# Altium schematic symbol library Pieces.SchLib: 16 symbols
Pins are listed as number, name and electrical type; pins without a type are passive.

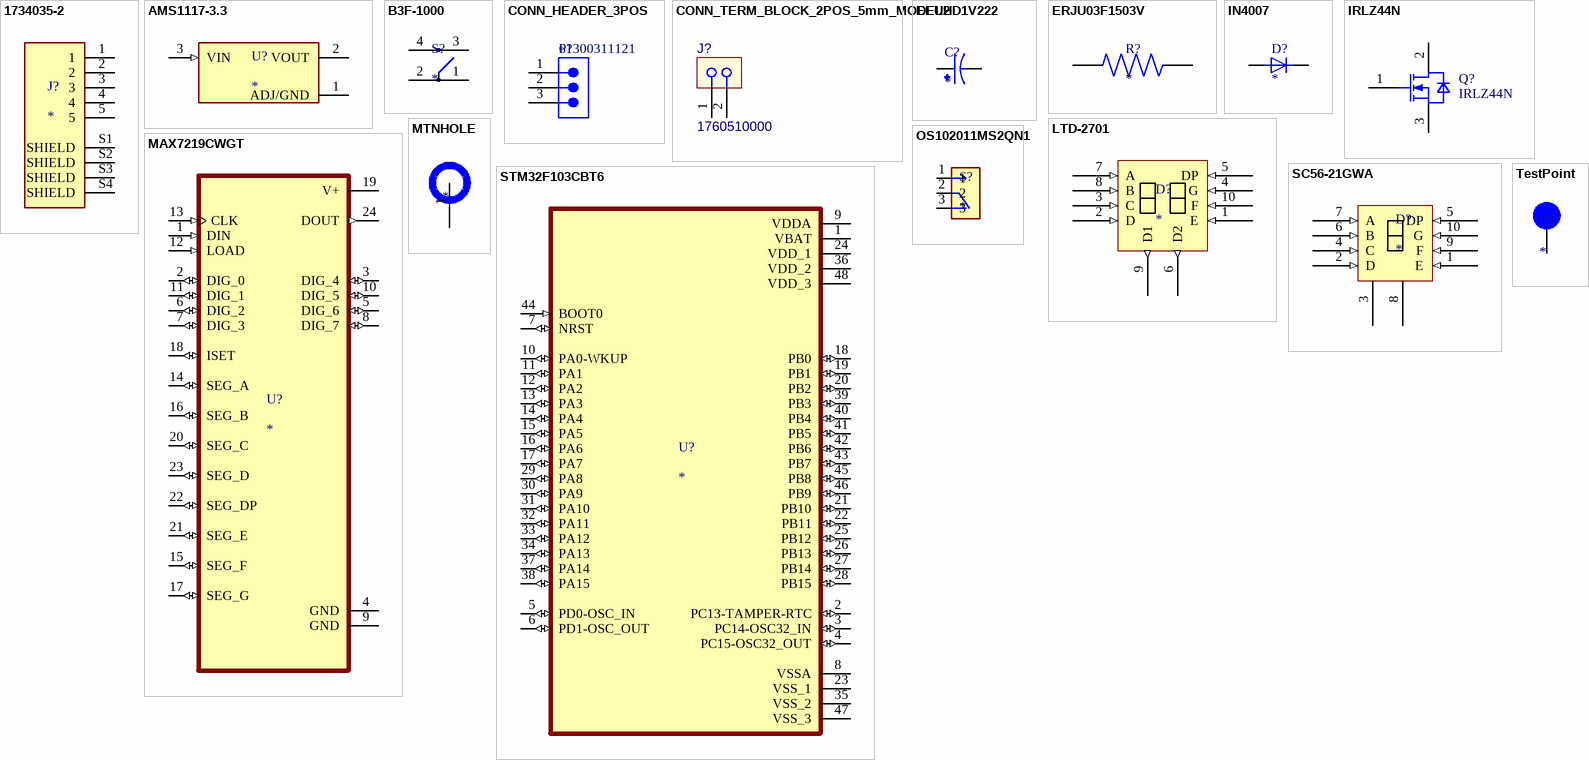
[diagram p0: symbols 1734035-2 to TestPoint]

## 1734035-2
designator J?
CONNECTOR, RECEPTACLE, MINI-USB, 1 PORT, SERIES B, RIGHT ANGLE | TE Connectivity 1734035-2; Number_of_Positions: 5; Centerline_Pitch: .8 mm[.031 in]; SnapEDA_Link: https://www.snapeda.com/parts/1734035-2/TE+Connectivity+AMP+Connectors/view-part/?ref=snap; Product_Type: Connector; Package: None; Value: *; MF: TE Connectivity; MP: 1734035-2; EU_RoHS_Compliance: Compliant; Check_prices: https://www.snapeda.com/parts/1734035-2/TE+Connectivity+AMP+Connectors/view-part/?ref=eda; Supplier 1: Avnet; Supplier Part Number 1: 1734035-2
footprint CONN_1734035-2
pins: 1, 2, 3, 4, 5, S1 SHIELD, S2 SHIELD, S3 SHIELD, S4 SHIELD

## AMS1117-3.3
designator U?
Linear Voltage Regulator IC Positive Fixed 1 Output 1A SOT-223-3L; MF: UMW; MP: AMS1117-3.3; SnapEDA_Link: https://www.snapeda.com/parts/AMS1117-3.3/UMW/view-part/?ref=snap; Package: SOT-223-3L UMW; Value: *; Check_prices: https://www.snapeda.com/parts/AMS1117-3.3/UMW/view-part/?ref=eda; Supplier 1: DigiKey; Supplier Part Number 1: 5272-AMS1117-3.3SCT-ND
footprint SOT229P700X180-4N
pins: 1 ADJ/GND (power), 2 VOUT, 3 VIN (in)

## B3F-1000
designator S?
Switch Tactile N.O. SPST Flat Round Button PC Pins 0.05A 24VDC 1000000Cycles 0.98N Thru-Hole Bag; MF: Omron; MP: B3F1000; SnapEDA_Link: https://www.snapeda.com/parts/B3F1000/Omron/view-part/?ref=snap; Package: None; Value: *; Check_prices: https://www.snapeda.com/parts/B3F1000/Omron/view-part/?ref=eda; Supplier 1: Avnet; Supplier Part Number 1: B3F1000
footprint SW_B3F-1000
pins: 1, 2, 3, 4

## CONN_HEADER_3POS
designator P?, comment 61300311121
Header 3pins single row, TH; Manufacturer 1: Würth Elektronik; Manufacturer Part Number 1: 61300311121; Mounting Technology: TH; Supplier 1: Digi-Key; Supplier Part Number 1: 732-5316-ND
footprint CONN_HDR_3POS_100MILS_TH (Pin Header, pitch 2.54 mm, THT, Vertical, single row, 3p)
pins: 1, 2, 3

## CONN_TERM_BLOCK_2POS_5mm_MODEL2
designator J?, comment 1760510000
CONN TERM BLOCK 2POS 5mm pitch; Manufacturer 1: Phoenix Contact; Manufacturer Part Number 1: 1890963; CEGEP: CONWECO0003; Manufacturer2: Weidmüller; Manufacturer2_PN: 1760510000; Supplier 1: Digi-Key; Supplier Part Number 1: 281-1882-ND; Mounting Technology: TH
footprint CONN_TERM_BLOCK_2POS_5mm_Model1 (Terminal Block 2 positions Throught hole)
pins: 1 "USB Vcc [Red]", 2 "USB Data - [White]"

## EEUHD1V222
designator C?
CAP ALUM 2200UF 20% 35V RADIAL; MF: Panasonic; MP: EEU-HD1V222; Price: None; Value: *; Check_prices: https://www.snapeda.com/parts/EEU-HD1V222/Panasonic/view-part/2299095/?ref=eda; Package: RADIAL-2 Panasonic; SnapEDA_Link: https://www.snapeda.com/parts/EEU-HD1V222/Panasonic/view-part/2299095/?ref=snap; Purchase-URL: https://pricing.snapeda.com/search/part/EEU-HD1V222/?ref=eda; Availability: In Stock; Supplier 1: Newark; Supplier Part Number 1: EEUHD1V222
footprint CAPPRD500W60D1250H2500
pins: N, P

## ERJU03F1503V
designator R?
0201 anti-sulfurated resistor 0603 Anti-Sulfurated; MF: Panasonic; MP: ERJ-U03F1503V; SnapEDA_Link: https://www.snapeda.com/parts/ERJ-U03F1503V/Panasonic/view-part/?ref=snap; Package: 1608-2 Panasonic; Value: *; Check_prices: https://www.snapeda.com/parts/ERJ-U03F1503V/Panasonic/view-part/?ref=eda; Supplier 1: Avnet; Supplier Part Number 1: RC0603FR-1020KL
footprint RES_ERJU03F1503V
pins: 1, 2

## IN4007
designator D?
Diode Standard 1000 V 1A Through Hole DO-204AL (DO-41); MF: Vishay Semiconductor; MP: IN4007; SnapEDA_Link: https://www.snapeda.com/parts/IN4007/Vishay/view-part/?ref=snap; Package: DO-41 Vishay Semiconductor; Value: *; Check_prices: https://www.snapeda.com/parts/IN4007/Vishay/view-part/?ref=eda
footprint DIOAD1070W78L470D235P
pins: A, C

## IRLZ44N
designator Q?
OptiMOS 3 Power-Transistor, VDS 100V; Manufacturer: Infineon Technologies; Manufacturer Order Number: IRLZ44N; PackageReference: PG-TO220-3-904; Supplier 1: Avnet; Supplier Part Number 1: IRLZ44NPBF
footprint IFX-PG-TO220-3-904-1 (TO,flange mount,2.54 mm pitch, 3 pin, 10.16 mm L X 4.57 mm W X 20.56 mm H body)
pins: 1 GATE, 2 DRAIN, 3 SOURCE

## LTD-2701
designator D?
Afficheur 7-segments double; Supplier 1: Future Electronics; Supplier Part Number 1: LTD-2701G
footprint LTD-701JD
pins: 1 E (in), 2 D (in), 3 C (in), 4 G (in), 5 DP (in), 6 D2 (out), 7 A (in), 8 B (in), 9 D1 (out), 10 F (in)

## MAX7219CWGT
designator U?
IC DRVR 7 SEGMNT 8 DIGIT 24SOIC; MF: Analog Devices; MP: MAX7219CWG+; SnapEDA_Link: https://www.snapeda.com/parts/MAX7219CWG+/Analog+Devices/view-part/?ref=snap; Package: SOIC-24 Maxim; Value: *; Check_prices: https://www.snapeda.com/parts/MAX7219CWG+/Analog+Devices/view-part/?ref=eda; Supplier 1: DigiKey; Supplier Part Number 1: MAX7219CWG+TCT-ND
footprint SOIC127P1032X265-24N
pins: 1 DIN (in), 2 DIG_0 (io), 3 DIG_4 (io), 4 GND (power), 5 DIG_6 (io), 6 DIG_2 (io), 7 DIG_3 (io), 8 DIG_7 (io), 9 GND (power), 10 DIG_5 (io), 11 DIG_1 (io), 12 LOAD (in), 13 CLK (in), 14 SEG_A (io), 15 SEG_F (io), 16 SEG_B (io), 17 SEG_G (io), 18 ISET (io), 19 V+ (power), 20 SEG_C (io), 21 SEG_E (io), 22 SEG_DP (io), 23 SEG_D (io), 24 DOUT (out)

## MTNHOLE
designator *
footprint MTHOLE1_LAB4
pins: 1

## OS102011MS2QN1
designator S?
SLIDE SWITCH SPDT T/H ON-ON BBM; MP: OS102011MS2QN1; MF: C&K; SnapEDA_Link: https://www.snapeda.com/parts/OS102011MS2QN1/C%2526K/view-part/?ref=snap; Purchase-URL: https://pricing.snapeda.com/search/part/OS102011MS2QN1/?ref=eda; Value: *; Digi-Key_Part_Number: CKN9565-ND; Check_prices: https://www.snapeda.com/parts/OS102011MS2QN1/C%2526K/view-part/?ref=eda; Package: None; Supplier 1: Arrow Electronics; Supplier Part Number 1: OS102011MS2QN1C
footprint SW_OS102011MS2QN1
pins: 1, 2, 3

## SC56-21GWA
designator D?
Afficheur 7-Segment; Supplier 1: DigiKey; Supplier Part Number 1: 754-1704-5-ND
footprint 7-SegmentDIP
footprint SC56-21GWA
pins: 1 E (in), 2 D (in), 3 (power), 4 C (in), 5 DP (in), 6 B (in), 7 A (in), 8 (power), 9 F (in), 10 G (in)

## STM32F103CBT6
designator U?
ARMÂ® CortexÂ®-M3 STM32F1 Microcontroller IC 32-Bit Single-Core 72MHz 128KB (128K x 8) FLASH; MF: STMicroelectronics; MP: STM32F103CBT6; SnapEDA_Link: https://www.snapeda.com/parts/STM32F103CBT6/STMicroelectronics/view-part/?ref=snap; Package: LQFP-48 STMicroelectronics; Value: *; Check_prices: https://www.snapeda.com/parts/STM32F103CBT6/STMicroelectronics/view-part/?ref=eda; Supplier 1: Arrow Electronics; Supplier Part Number 1: STM32F103CBT6
footprint QFP50P900X900X160-48N
pins: 1 VBAT (power), 2 PC13-TAMPER-RTC (io), 3 PC14-OSC32_IN (io), 4 PC15-OSC32_OUT (io), 5 PD0-OSC_IN (io), 6 PD1-OSC_OUT (io), 7 NRST (io), 8 VSSA (power), 9 VDDA (power), 10 PA0-WKUP (io), 11 PA1 (io), 12 PA2 (io), 13 PA3 (io), 14 PA4 (io), 15 PA5 (io), 16 PA6 (io), 17 PA7 (io), 18 PB0 (io), 19 PB1 (io), 20 PB2 (io), 21 PB10 (io), 22 PB11 (io), 23 VSS_1 (power), 24 VDD_1 (power), 25 PB12 (io), 26 PB13 (io), 27 PB14 (io), 28 PB15 (io), 29 PA8 (io), 30 PA9 (io), 31 PA10 (io), 32 PA11 (io), 33 PA12 (io), 34 PA13 (io), 35 VSS_2 (power), 36 VDD_2 (power), 37 PA14 (io), 38 PA15 (io), 39 PB3 (io), 40 PB4 (io), 41 PB5 (io), 42 PB6 (io), 43 PB7 (io), 44 BOOT0 (in), 45 PB8 (io), 46 PB9 (io), 47 VSS_3 (power), 48 VDD_3 (power)

## TestPoint
designator T?
footprint Testpoint
pins: 1